# EAGLE library part BC857BS (library diodes_2020)
Dual PNP transistor, SOT-363
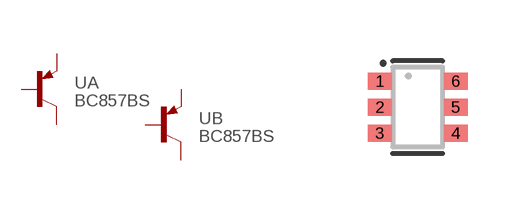
[diagram p0: symbol with the pads of SOT-363; footprint SOT-363]

Designator prefix -; gates A=PNP B=PNP

## BC857BS  [SOT-363]
1  A:E  pas
2  A:B  pas
3  B:C  pas
4  B:E  pas
5  B:B  pas
6  A:C  pas

## Footprint SOT-363 (pad centres in mm)
smd 0.6 x 0.42: 1 -0.95,0.65; 2 -0.95,0; 3 -0.95,-0.65; 4 0.95,-0.65; 5 0.95,0; 6 0.95,0.65